# EAGLE library part TUSB9261_PVP_64 (library Texas Instruments)
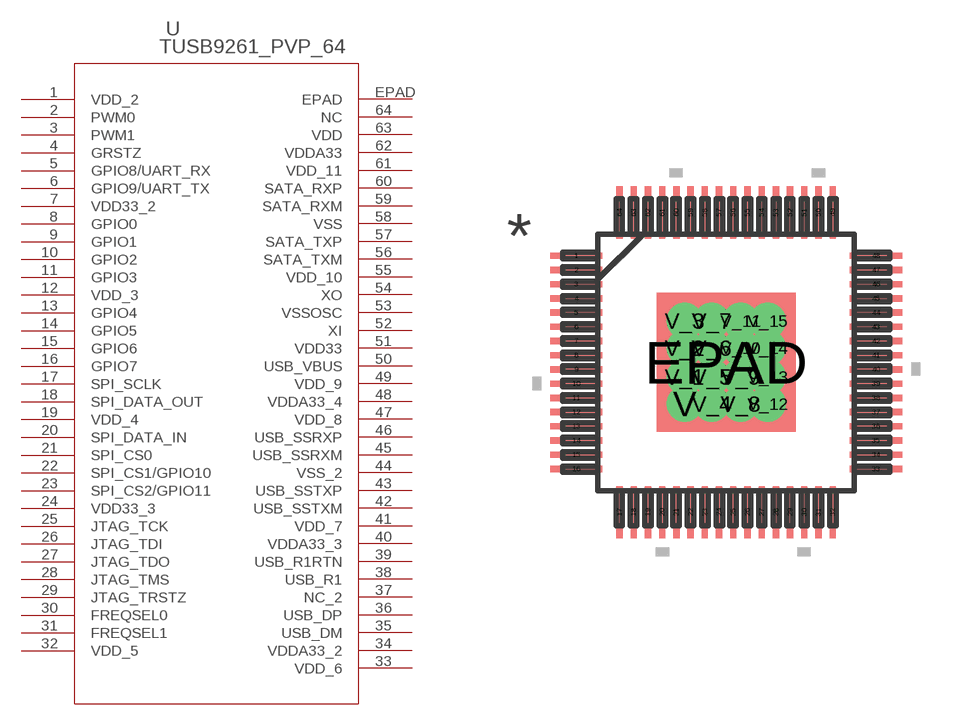
[diagram p34: symbol with the pads of PVP64_3P9X3P9; footprint PVP64_3P9X3P9]

Designator prefix U

## TUSB9261_PVP_64 (DATASHEETURL: http://www.ti.com/lit/gpn/TUSB9261; DESCRIPTION: 2nd Generation SuperSpeed USB 3.0 to Serial ATA Bridge; FAMILY_NAME: USB PERIPHERAL; GENERIC_PART_NUMBER: TUSB9261; INDUSTRY_STD_PKG_TYPE: HTQFP; MANUFACTURER: Texas Instruments; MANUFACTURER_PART_NUMBER: tusb9261_pvp_64; PACKAGE_DESIGNATOR: PVP; PIN_COUNT: 64; VENDOR: Texas Instruments)  [PVP64_3P9X3P9]
1  VDD_2  pwr
2  PWM0  out
3  PWM1  out
4  GRSTZ  in
5  GPIO8/UART_RX
6  GPIO9/UART_TX
7  VDD33_2  pwr
8  GPIO0
9  GPIO1
10  GPIO2
11  GPIO3
12  VDD_3  pwr
13  GPIO4
14  GPIO5
15  GPIO6
16  GPIO7
17  SPI_SCLK  out
18  SPI_DATA_OUT  out
19  VDD_4  pwr
20  SPI_DATA_IN  in
21  SPI_CS0  out
22  SPI_CS1/GPIO10
23  SPI_CS2/GPIO11
24  VDD33_3  pwr
25  JTAG_TCK  in
26  JTAG_TDI  in
27  JTAG_TDO  out
28  JTAG_TMS  in
29  JTAG_TRSTZ  in
30  FREQSEL0  in
31  FREQSEL1  in
32  VDD_5  pwr
33  VDD_6  pwr
34  VDDA33_2  pwr
35  USB_DM
36  USB_DP
37  NC_2  pas
38  USB_R1  out
39  USB_R1RTN  in
40  VDDA33_3  pwr
41  VDD_7  pwr
42  USB_SSTXM  out
43  USB_SSTXP  out
44  VSS_2  pwr
45  USB_SSRXM  in
46  USB_SSRXP  in
47  VDD_8  pwr
48  VDDA33_4  pwr
49  VDD_9  pwr
50  USB_VBUS  in
51  VDD33  pwr
52  XI  in
53  VSSOSC  pwr
54  XO  out
55  VDD_10  pwr
56  SATA_TXM  out
57  SATA_TXP  out
58  VSS  pwr
59  SATA_RXM  in
60  SATA_RXP  in
61  VDD_11  pwr
62  VDDA33  pwr
63  VDD  pwr
64  NC  pas
EPAD  EPAD  pas

## Footprint PVP64_3P9X3P9 (pad centres in mm)
smd 1.473 x 0.178: 1 -4.216,3; 2 -4.216,2.6; 3 -4.216,2.2; 4 -4.216,1.8; 5 -4.216,1.4; 6 -4.216,1; 7 -4.216,0.6; 8 -4.216,0.2; 9 -4.216,-0.2; 10 -4.216,-0.6; 11 -4.216,-1; 12 -4.216,-1.4; 13 -4.216,-1.8; 14 -4.216,-2.2; 15 -4.216,-2.6; 16 -4.216,-3; 33 4.216,-3; 34 4.216,-2.6; 35 4.216,-2.2; 36 4.216,-1.8; 37 4.216,-1.4; 38 4.216,-1; 39 4.216,-0.6; 40 4.216,-0.2; 41 4.216,0.2; 42 4.216,0.6; 43 4.216,1; 44 4.216,1.4; 45 4.216,1.8; 46 4.216,2.2; 47 4.216,2.6; 48 4.216,3
smd 0.178 x 1.473: 17 -3,-4.216; 18 -2.6,-4.216; 19 -2.2,-4.216; 20 -1.8,-4.216; 21 -1.4,-4.216; 22 -1,-4.216; 23 -0.6,-4.216; 24 -0.2,-4.216; 25 0.2,-4.216; 26 0.6,-4.216; 27 1,-4.216; 28 1.4,-4.216; 29 1.8,-4.216; 30 2.2,-4.216; 31 2.6,-4.216; 32 3,-4.216; 49 3,4.216; 50 2.6,4.216; 51 2.2,4.216; 52 1.8,4.216; 53 1.4,4.216; 54 1,4.216; 55 0.6,4.216; 56 0.2,4.216; 57 -0.2,4.216; 58 -0.6,4.216; 59 -1,4.216; 60 -1.4,4.216; 61 -1.8,4.216; 62 -2.2,4.216; 63 -2.6,4.216; 64 -3,4.216
smd 3.912 x 3.912: EPAD 0,0
drill 0.508: V -1.168,-1.168; V_1 -1.168,-0.406; V_2 -1.168,0.406; V_3 -1.168,1.168; V_4 -0.406,-1.168; V_5 -0.406,-0.406; V_6 -0.406,0.406; V_7 -0.406,1.168; V_8 0.406,-1.168; V_9 0.406,-0.406; V_10 0.406,0.406; V_11 0.406,1.168; V_12 1.168,-1.168; V_13 1.168,-0.406; V_14 1.168,0.406; V_15 1.168,1.168